# EAGLE library part LTC3601UD (library linear-technology)
Synchronous Step-Down Regulator 1.5A, 15V Monolithic
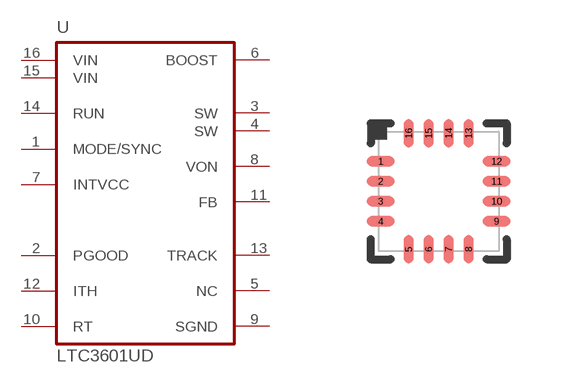
[diagram p46: symbol with the pads of QFN16-UD; footprint QFN16-UD]

Designator prefix U

## LTC3601UD  [QFN16-UD]
1  MODE/SYNC  in
2  PGOOD  oc
3  SW  out
4  SW  out
5  NC  nc
6  BOOST  in
7  INTVCC  out
8  VON  in
9  SGND  pwr
10  RT  in
11  FB  in
12  ITH  in
13  TRACK  in
14  RUN  in
15  VIN  pwr
16  VIN  pwr

## Footprint QFN16-UD (pad centres in mm)
QFN16 body 3 x 3 x 0.75 mm
smd 0.7 x 0.25: 1 -1.45,0.75; 2 -1.45,0.25; 3 -1.45,-0.25; 4 -1.45,-0.75; 9 1.45,-0.75; 10 1.45,-0.25; 11 1.45,0.25; 12 1.45,0.75
smd 0.25 x 0.7: 5 -0.75,-1.45; 6 -0.25,-1.45; 7 0.25,-1.45; 8 0.75,-1.45; 13 0.75,1.45; 14 0.25,1.45; 15 -0.25,1.45; 16 -0.75,1.45